# Altium footprint library SMD.PcbLib: 3 footprints
Each footprint in its own frame and in the unit in brackets; x right, y up, seen from the top. Pads: shape width x height; smd on the part's side, far side on the other; paste and mask are expansions set on the pad; w line width, h text height; cw(c..) or ccw(c..) is an arc to the next point about the centre after c.
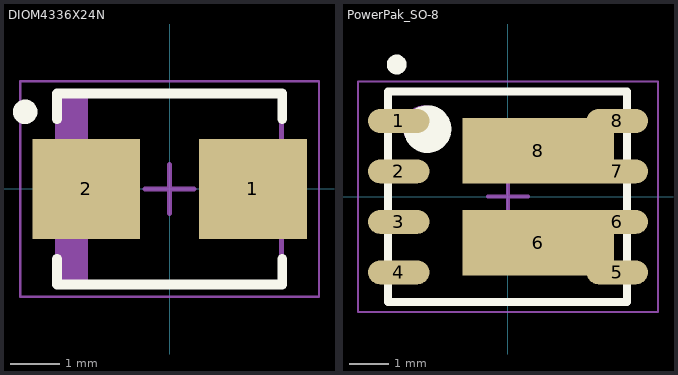
[diagram p0: the footprints below, top view; thin cyan lines are the x and y axes]

## DIOM4336X24N [mm] "Molded Diode, 2-Leads, Body 4,31x3,55mm, IPC Medium Density"
height 2.41
pads (2):
  rect 2.2x2.05 smd: 1(1.7,0) 2(-1.7,0)
Top Overlay:
  circle w0.25: c-2.95,1.575 r0.125
  lines w0.2: -2.3,-1.425 -2.3,-1.95 2.3,-1.95 2.3,-1.425 ; -2.3,1.425 -2.3,1.95 2.3,1.95 2.3,1.425
Mechanical 13:
  rectangle: -2.285,-1.905 -1.67,1.905
  lines w0.1: -2.285,-1.905 -2.285,1.905 2.285,1.905 2.285,-1.905 -2.285,-1.905
Mechanical 15:
  lines w0.05: -3.05,-2.2 -3.05,2.2 3.05,2.2 3.05,-2.2 -3.05,-2.2
  lines w0.1: -0.5,0 0.5,0 ; 0,-0.5 0,0.5
3D body: height 2.41, standoff 0, extent -2.285,-1.905 2.285,1.905

## PCBComponent_1 [mm]

## PowerPak_SO-8 [mm] "SOIC, 8-Leads, Body 5,15x5,89mm, Pitch 1,27mm, Thermal Pad 1,00.2x1,00.2mm, IPC Medium Density"
height 1.12
pads (10):
  oval 1.55x0.6 smd: 1(-2.75,1.905) 2(-2.75,0.635) 3(-2.75,-0.635) 4(-2.75,-1.905) 5(2.75,-1.905) 6(2.75,-0.635) 7(2.75,0.635) 8(2.75,1.905)
  rect 3.81x1.65 smd: 6(0.758,-1.16) 8(0.758,1.16)
Top Overlay:
  circle w0.6: c-2.025,1.7 r0.3
  circle w0.25: c-2.8,3.325 r0.125
  lines w0.2: -3.025,-2.65 3,-2.65 3,2.65 -3.025,2.65 -3.025,-2.65
Mechanical 13:
  circle w0.1: c-2.1,1.75 r0.5
  lines w0.1: -3,-2.65 3,-2.65 3,2.65 -3,2.65 -3,-2.65
Mechanical 15:
  lines w0.05: -3.775,-2.9 3.775,-2.9 3.775,2.9 -3.775,2.9 -3.775,-2.9
  lines w0.1: -0.5,0 0.5,0 ; 0,-0.5 0,0.5
3D body: height 1.12, standoff 0.28, extent -3,-2.65 3,2.65